# Altium footprint library Library.PcbLib: 29 footprints (part 1 of 2)
Each footprint in its own frame and in the unit in brackets; x right, y up, seen from the top. Pads: shape width x height; smd on the part's side, far side on the other; paste and mask are expansions set on the pad; w line width, h text height; cw(c..) or ccw(c..) is an arc to the next point about the centre after c.
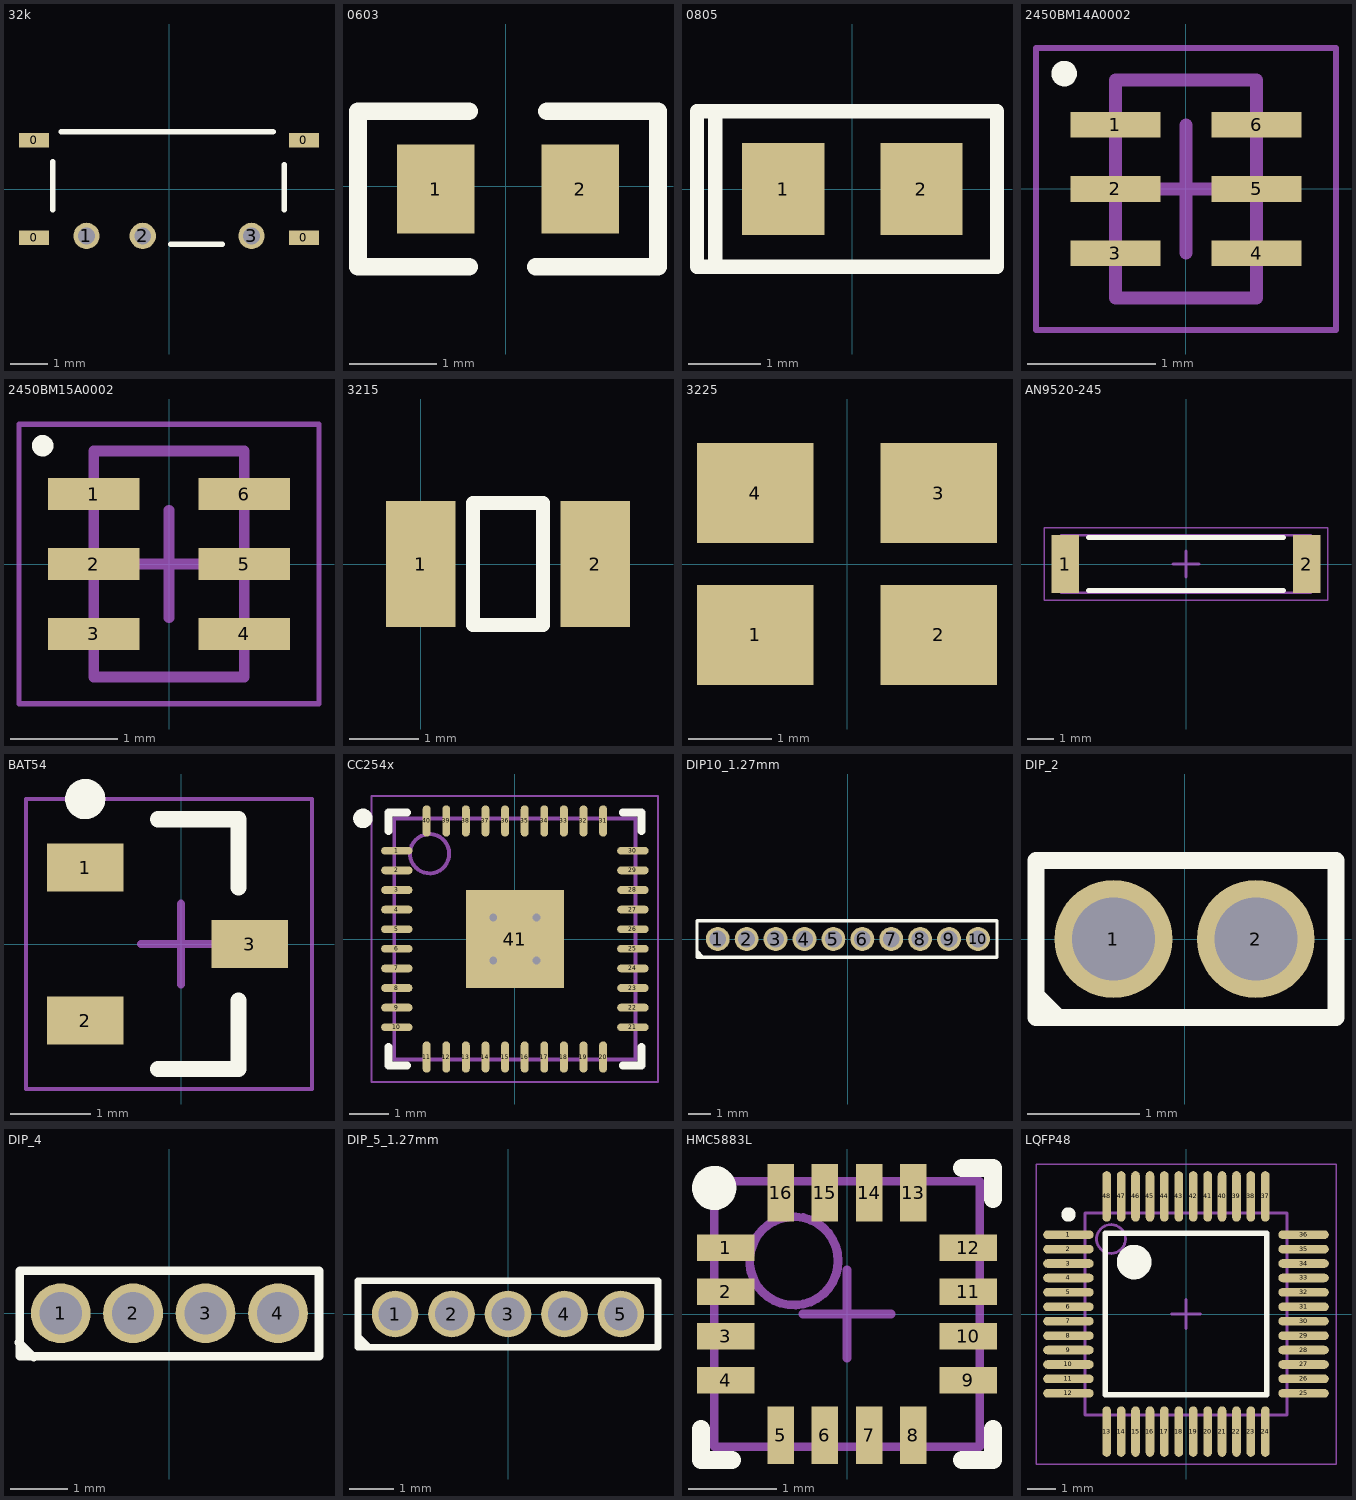
[diagram p0: the footprints below, top view; thin cyan lines are the x and y axes]

## 32k [mm]
pads (7):
  rect 0.8x0.4 smd: 0(-3.6,-1.3) 0(-3.6,1.3) 0(3.6,-1.3) 0(3.6,1.3)
  round 0.7 hole 0.45: 1(-2.2,-1.25) 2(-0.7,-1.25) 3(2.2,-1.25)
Top Overlay:
  lines w0.15: -3.1,-0.55 -3.1,0.725 ; -2.875,1.525 2.775,1.525 ; 0.05,-1.475 1.425,-1.475 ; 3.075,-0.55 3.075,0.65

## 0603 [mil]
height 98.43
pads (2):
  rect 35x40 smd: 1(-31.54,-1.14) 2(33.46,-1.14)
Top Overlay:
  lines w8: -16.54,-36.14 -66.54,-36.14 -66.54,33.86 -16.54,33.86 ; 13.46,-36.14 68.46,-36.14 68.46,33.86 18.46,33.86

## 0805 [mm]
pads (2):
  rect 1.14x1.27 smd: 1(-0.955,0) 2(0.955,0)
Top Overlay:
  lines w0.2: -1.9,-1.075 -2.15,-1.075 -2.15,0.975 -2.15,1.075 -1.9,1.075 ; -1.9,-1.075 -1.9,1.075 ; -1.9,-1.075 2,-1.075 2,-0.95 2,1.075 -1.9,1.075

## 2450BM14A0002 [mm] "Chip Array, Flat, 6-Leads, Pitch 0.50mm,  Body 1.60x0.80mm,  IPC Medium Density"
height 0.7
pads (6):
  rect 0.7x0.2 smd: 1(-0.55,0.5) 2(-0.55,0) 3(-0.55,-0.5) 4(0.55,-0.5) 5(0.55,0) 6(0.55,0.5)
Top Overlay:
  circle w0.1: c-0.95,0.9 r0.05
Mechanical 13:
  lines w0.1: -0.55,-0.85 0.55,-0.85 0.55,0.85 -0.55,0.85 -0.55,-0.85
Mechanical 15:
  lines w0.05: -1.17,-1.1 1.17,-1.1 1.17,1.1 -1.17,1.1 -1.17,-1.1
  lines w0.1: -0.5,0 0.5,0 ; 0,-0.5 0,0.5
3D body: height 0.7, standoff 0, extent -0.45,-0.85 0.45,0.85

## 2450BM15A0002 [mm]
height 0.8
pads (6):
  rect 0.85x0.3 smd: 1(-0.7,0.65) 2(-0.7,0) 3(-0.7,-0.65) 4(0.7,-0.65) 5(0.7,0) 6(0.7,0.65)
Top Overlay:
  circle w0.1: c-1.175,1.1 r0.05
Mechanical 13:
  lines w0.1: -0.7,-1.05 -0.7,1.05 0.7,1.05 0.7,-1.05 -0.7,-1.05
Mechanical 15:
  lines w0.05: -1.395,-1.3 -1.395,1.3 1.395,1.3 1.395,-1.3 -1.395,-1.3
  lines w0.1: -0.5,0 0.5,0 ; 0,-0.5 0,0.5
3D body: height 0.8, standoff 0, extent -0.675,-1.05 0.675,1.05

## 3215 [mm]
height 0.85
pads (2):
  rect 1x1.8 smd: 1(0,0) 2(2.5,0)
Top Overlay:
  lines w0.2: 0.75,-0.875 1.75,-0.875 1.75,0.875 0.75,0.875 0.75,-0.875

## 3225 [mm]
height 0.8
pads (4):
  rect 1.4x1.2 smd: 1(-1.1,-0.85) 2(1.1,-0.85) 3(1.1,0.85) 4(-1.1,0.85)

## AN9520-245 [mm] "Chip Capacitor, 2-Leads, Body 9.50x2.10mm, IPC Medium Density"
height 1.2
pads (2):
  rect 1.05x2.25 smd: 1(-4.65,0) 2(4.65,0)
Top Overlay:
  lines w0.2: -3.75,-1.025 3.75,-1.025 ; -3.75,1.025 3.75,1.025
Mechanical 13:
  lines w0.1: -4.8,-1.1 -4.8,1.1 4.8,1.1 4.8,-1.1 -4.8,-1.1
Mechanical 15:
  lines w0.05: -5.45,-1.4 -5.45,1.4 5.45,1.4 5.45,-1.4 -5.45,-1.4
  lines w0.1: -0.5,0 0.5,0 ; 0,-0.5 0,0.5
3D body: height 1.2, standoff 0, extent -4.3,-1.1 4.3,1.1
3D body: height 1.2, standoff 0, extent -4.8,-1.1 -4.3,1.1
3D body: height 1.2, standoff 0, extent 4.3,-1.1 4.8,1.1

## BAT54 [mm] "SOT23, 3-Leads, Body 2.95x2.48mm, Pitch 0.95mm, IPC Medium Density"
height 1.15
pads (3):
  rect 0.95x0.6 smd: 1(-1.19,0.95) 2(-1.19,-0.95) 3(0.85,0)
Top Overlay:
  circle w0.25: c-1.19,1.8 r0.125
  lines w0.2: -0.285,-1.55 0.715,-1.55 0.715,-0.7 ; -0.285,1.55 0.715,1.55 0.715,0.7
Mechanical 15:
  lines w0.05: -1.925,-1.8 -1.925,1.8 1.625,1.8 1.625,-1.8 -1.925,-1.8
  lines w0.1: -0.5,0 0.5,0 ; 0,-0.5 0,0.5

## CC254x [mm] "QFN, 40-Leads, Body 6.00x6.00mm, Pitch 0.50mm, Thermal Pad 4.82x4.82mm, IPC Medium Density"
height 1
pads (41):
  oval 0.8x0.2 smd: 1(-3.01,2.25) 2(-3.01,1.75) 3(-3.01,1.25) 4(-3.01,0.75) 5(-3.01,0.25) 6(-3.01,-0.25) 7(-3.01,-0.75) 8(-3.01,-1.25) 9(-3.01,-1.75) 10(-3.01,-2.25) 21(3.01,-2.25) 22(3.01,-1.75) 23(3.01,-1.25) 24(3.01,-0.75) 25(3.01,-0.25) 26(3.01,0.25) 27(3.01,0.75) 28(3.01,1.25) 29(3.01,1.75) 30(3.01,2.25)
  oval 0.2x0.8 smd: 11(-2.25,-3.01) 12(-1.75,-3.01) 13(-1.25,-3.01) 14(-0.75,-3.01) 15(-0.25,-3.01) 16(0.25,-3.01) 17(0.75,-3.01) 18(1.25,-3.01) 19(1.75,-3.01) 20(2.25,-3.01) 31(2.25,3.01) 32(1.75,3.01) 33(1.25,3.01) 34(0.75,3.01) 35(0.25,3.01) 36(-0.25,3.01) 37(-0.75,3.01) 38(-1.25,3.01) 39(-1.75,3.01) 40(-2.25,3.01)
  rect 2.5x2.5 smd: 41(0,0)
via 0.55,-0.55 diameter 0.5 hole 0.2
via -0.55,-0.55 diameter 0.5 hole 0.2
via 0.55,0.55 diameter 0.5 hole 0.2
via -0.55,0.55 diameter 0.5 hole 0.2
Top Overlay:
  circle w0.25: c-3.875,3.075 r0.125
  lines w0.2: -3.225,-2.75 -3.225,-3.225 -2.75,-3.225 ; -3.225,2.75 -3.225,3.225 -2.75,3.225 ; 2.75,-3.225 3.225,-3.225 3.225,-2.75 ; 2.75,3.225 3.225,3.225 3.225,2.75
Mechanical 13:
  circle w0.1: c-2.175,2.175 r0.5
  lines w0.1: -3.075,-3.075 3.075,-3.075 3.075,3.075 -3.075,3.075 -3.075,-3.075
Mechanical 15:
  lines w0.05: -3.65,-3.65 3.65,-3.65 3.65,3.65 -3.65,3.65 -3.65,-3.65
  lines w0.1: -0.5,0 0.5,0 ; 0,-0.5 0,0.5
3D body: height 1, standoff 0.08, extent -3.075,-3.075 3.075,3.075

## DIP10_1.27mm [mm]
pads (10):
  round 1.05 hole 0.74: 1(-5.715,0) 2(-4.445,0) 3(-3.175,0) 4(-1.905,0) 5(-0.635,0) 6(0.635,0) 7(1.905,0) 8(3.175,0) 9(4.445,0) 10(5.715,0)
Top Overlay:
  lines w0.15: -6.625,-0.5 -6.625,-0.55 -6.375,-0.8 ; -6.625,-0.8 6.55,-0.8 6.55,0.8 -6.625,0.8 -6.625,-0.8

## DIP_2 [mm]
pads (2):
  round 1.05 hole 0.74: 1(-0.635,0) 2(0.635,0)
Top Overlay:
  lines w0.15: -1.325,-0.5 -1.125,-0.7 ; -1.325,-0.7 -1.325,0.7 1.35,0.7 1.35,-0.7 -1.325,-0.7

## DIP_4 [mm]
pads (4):
  round 1.05 hole 0.74: 1(-1.905,0) 2(-0.635,0) 3(0.635,0) 4(1.905,0)
Top Overlay:
  lines w0.15: -2.638,-0.512 -2.375,-0.775 ; -2.625,-0.75 2.625,-0.75 2.625,0.75 -2.625,0.75 -2.625,-0.75

## DIP_5_1.27mm [mm]
pads (5):
  round 1.05 hole 0.74: 1(-2.54,0) 2(-1.27,0) 3(0,0) 4(1.27,0) 5(2.54,0)
Top Overlay:
  lines w0.15: -3.125,-0.75 -3.375,-0.5 ; -3.375,-0.5 -3.375,-0.5 ; -3.375,-0.75 -3.375,0.75 3.375,0.75 3.375,-0.75 -3.375,-0.75

## HMC5883L [mm]
height 0.9
pads (16):
  rect 0.65x0.3 smd: 1(-1.37,0.75) 2(-1.37,0.25) 3(-1.37,-0.25) 4(-1.37,-0.75) 9(1.37,-0.75) 10(1.37,-0.25) 11(1.37,0.25) 12(1.37,0.75)
  rect 0.3x0.65 smd: 5(-0.75,-1.37) 6(-0.25,-1.37) 7(0.25,-1.37) 8(0.75,-1.37) 13(0.75,1.37) 14(0.25,1.37) 15(-0.25,1.37) 16(-0.75,1.37)
Top Overlay:
  circle w0.25: c-1.5,1.425 r0.125
  lines w0.2: -1.65,-1.3 -1.65,-1.65 -1.3,-1.65 ; 1.3,-1.65 1.65,-1.65 1.65,-1.3 ; 1.3,1.65 1.65,1.65 1.65,1.3
Mechanical 13:
  circle w0.1: c-0.6,0.6 r0.5
  lines w0.1: -1.5,-1.5 -1.5,1.5 1.5,1.5 1.5,-1.5 -1.5,-1.5
Mechanical 15:
  lines w0.1: -0.5,0 0.5,0 ; 0,-0.5 0,0.5

## LQFP48 [mm] "TSQFP, 48-Leads, Body 7.00x7.00mm, Pitch 0.50mm, IPC Medium Density"
height 1.6
pads (48):
  oval 1.75x0.3 smd: 1(-4.075,2.75) 2(-4.075,2.25) 3(-4.075,1.75) 4(-4.075,1.25) 5(-4.075,0.75) 6(-4.075,0.25) 7(-4.075,-0.25) 8(-4.075,-0.75) 9(-4.075,-1.25) 10(-4.075,-1.75) 11(-4.075,-2.25) 12(-4.075,-2.75) 25(4.075,-2.75) 26(4.075,-2.25) 27(4.075,-1.75) 28(4.075,-1.25) 29(4.075,-0.75) 30(4.075,-0.25) 31(4.075,0.25) 32(4.075,0.75) 33(4.075,1.25) 34(4.075,1.75) 35(4.075,2.25) 36(4.075,2.75)
  oval 0.3x1.75 smd: 13(-2.75,-4.075) 14(-2.25,-4.075) 15(-1.75,-4.075) 16(-1.25,-4.075) 17(-0.75,-4.075) 18(-0.25,-4.075) 19(0.25,-4.075) 20(0.75,-4.075) 21(1.25,-4.075) 22(1.75,-4.075) 23(2.25,-4.075) 24(2.75,-4.075) 37(2.75,4.075) 38(2.25,4.075) 39(1.75,4.075) 40(1.25,4.075) 41(0.75,4.075) 42(0.25,4.075) 43(-0.25,4.075) 44(-0.75,4.075) 45(-1.25,4.075) 46(-1.75,4.075) 47(-2.25,4.075) 48(-2.75,4.075)
Top Overlay:
  circle w0.25: c-4.075,3.45 r0.125
  circle w0.6: c-1.8,1.8 r0.3
  lines w0.2: -2.8,-2.8 -2.8,2.8 2.8,2.8 2.8,-2.8 -2.8,-2.8
Mechanical 13:
  circle w0.1: c-2.6,2.6 r0.5
  lines w0.1: -3.5,-3.5 -3.5,3.5 3.5,3.5 3.5,-3.5 -3.5,-3.5
Mechanical 15:
  lines w0.05: -5.2,-5.2 -5.2,5.2 5.2,5.2 5.2,-5.2 -5.2,-5.2
  lines w0.1: -0.5,0 0.5,0 ; 0,-0.5 0,0.5
3D body: height 1.6, standoff 0.05, extent -3.5,-3.5 3.5,3.5